# Altium integrated library Oscillators - Crystals.IntLib: 746 symbols (part 11 of 17)
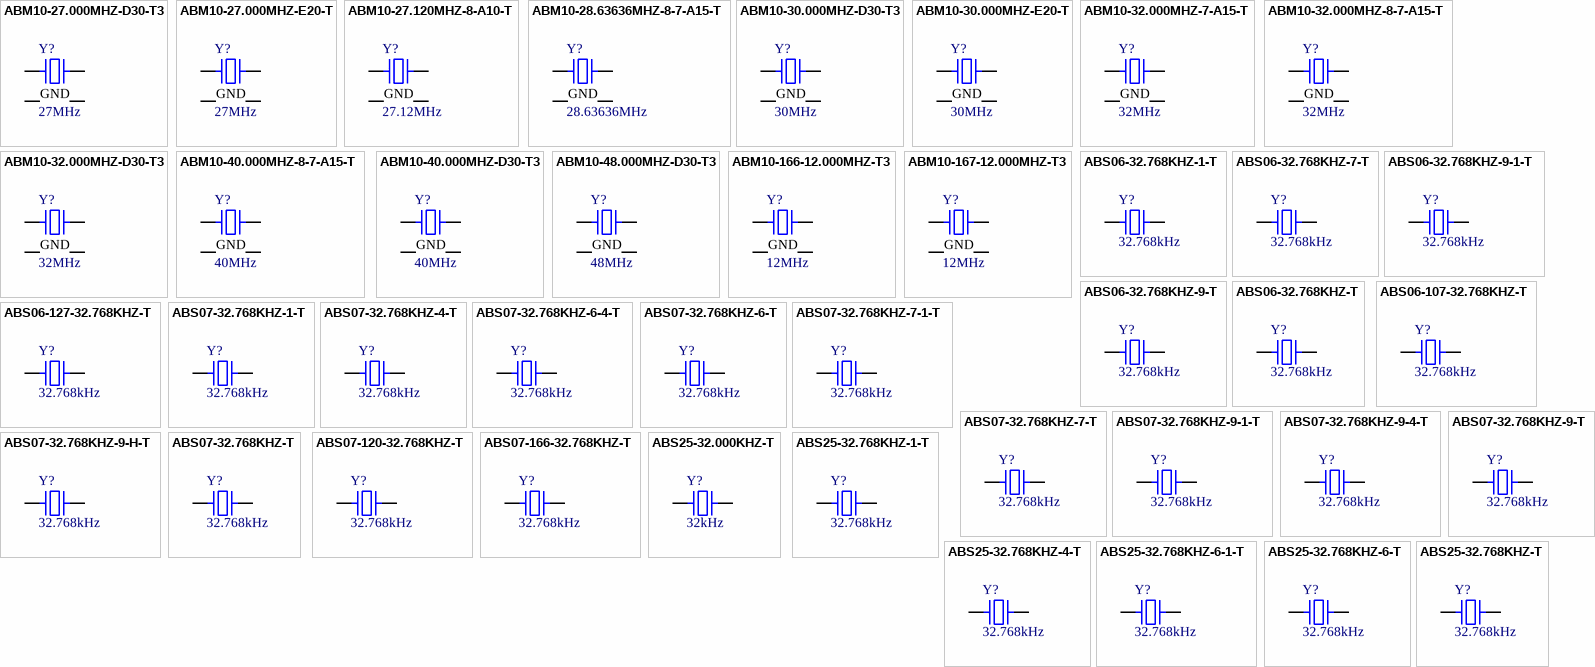
[diagram p28: symbols ABM10-27.000MHZ-D30-T3 to ABS25-32.768KHZ-T]

## ABS06-32.768KHZ-T
designator Y?, comment 32.768kHz
CRYSTAL 32.7680KHZ 12.5PF SMD; Part Number: ABS06-32.768KHZ-T; Manufacturer: Abracon LLC; ESR (Equivalent Series Resistance): 90 kOhms; Frequency Tolerance: ±20ppm; Operating Mode: Fundamental; ComponentLink1Description: Datasheet; ComponentLink1URL: https://abracon.com/Resonators/ABS06.pdf; ComponentLink2Description: DigiKey Link; ComponentLink2URL: http://digikey.com/product-detail/en/abracon-llc/ABS06-32.768KHZ-T/535-10104-1-ND/2089921; Frequency: 32.768kHz; Height - Seated (Max): 0.024" (0.60mm); LastUpdated: 9/2/2020 1:21:46 AM; Lifecycle Status: Active; Load Capacitance: 12.5pF; Minimum Order: 1; Mounting Type: Surface Mount; Operating Temperature: -40°C ~ 85°C; Package / Case: 2-SMD, No Lead; Packaging: TapeAndReel; PartId: 375; Part Status: Active; Price: 0.76; Series: ABS06; Size / Dimension: 0.079" L x 0.047" W (2.00mm x 1.20mm); Supplier 1: DigiKey; Supplier Part Number 1: 535-10104-1-ND; Type: kHz Crystal (Tuning Fork); Value: 32.768kHz
footprint ABRACON ABS06
pins: 1, 2

## ABS06-107-32.768KHZ-T
designator Y?, comment 32.768kHz
CRYSTAL 32.7680KHZ 4PF SMD; Part Number: ABS06-107-32.768KHZ-T; Manufacturer: Abracon LLC; ESR (Equivalent Series Resistance): 60 kOhms; Frequency Tolerance: ±20ppm; Operating Mode: Fundamental; ComponentLink1Description: Datasheet; ComponentLink1URL: https://abracon.com/Resonators/ABS06-107-32.768kHz-T.pdf; ComponentLink2Description: DigiKey Link; ComponentLink2URL: http://digikey.com/product-detail/en/abracon-llc/ABS06-107-32.768KHZ-T/535-12373-1-ND/4291563; Frequency: 32.768kHz; Height - Seated (Max): 0.024" (0.60mm); LastUpdated: 9/2/2020 1:21:46 AM; Lifecycle Status: Active; Load Capacitance: 4pF; Minimum Order: 1; Mounting Type: Surface Mount; Operating Temperature: -40°C ~ 85°C; Package / Case: 2-SMD, No Lead; Packaging: TapeAndReel; PartId: 373; Part Status: Active; Price: 0.65; Series: ABS06; Size / Dimension: 0.079" L x 0.047" W (2.00mm x 1.20mm); Supplier 1: DigiKey; Supplier Part Number 1: 535-12373-1-ND; Type: kHz Crystal (Tuning Fork); Value: 32.768kHz
footprint ABRACON ABS06
pins: 1, 2

## ABS06-127-32.768KHZ-T
designator Y?, comment 32.768kHz
IOT 32.786KHZ XTAL; Part Number: ABS06-127-32.768KHZ-T; Manufacturer: Abracon LLC; ESR (Equivalent Series Resistance): 90 kOhms; Frequency Tolerance: ±20ppm; Load Capacitance: 12.5pF; Operating Mode: Fundamental; ComponentLink1Description: Datasheet; ComponentLink1URL: https://abracon.com/datasheets/ABS06-127-32.768kHz-T.pdf; ComponentLink2Description: DigiKey Link; ComponentLink2URL: http://digikey.com/product-detail/en/abracon-llc/ABS06-127-32.768KHZ-T/535-14513-1-ND/8827204; Frequency: 32.768kHz; Height - Seated (Max): 0.024" (0.60mm); LastUpdated: 9/2/2020 1:21:46 AM; Lifecycle Status: Active; Minimum Order: 1; Mounting Type: Surface Mount; Operating Temperature: -40°C ~ 85°C; Package / Case: 2-SMD, No Lead; Packaging: TapeAndReel; PartId: 374; Part Status: Active; Price: 0.36; Series: ABS06; Size / Dimension: 0.079" L x 0.047" W (2.00mm x 1.20mm); Supplier 1: DigiKey; Supplier Part Number 1: 535-14513-1-ND; Type: kHz Crystal (Tuning Fork); Value: 32.768kHz
footprint ABRACON ABS06
pins: 1, 2

## ABS07-32.768KHZ-1-T
designator Y?, comment 32.768kHz
CRYSTAL 32.7680KHZ 12.5PF SMD; Part Number: ABS07-32.768KHZ-1-T; Manufacturer: Abracon LLC; ESR (Equivalent Series Resistance): 70 kOhms; Frequency Tolerance: ±10ppm; Operating Mode: Fundamental; ComponentLink1Description: Datasheet; ComponentLink1URL: https://abracon.com/Resonators/ABS07.pdf; ComponentLink2Description: DigiKey Link; ComponentLink2URL: http://digikey.com/product-detail/en/abracon-llc/ABS07-32.768KHZ-1-T/535-9808-1-ND/2001431; Frequency: 32.768kHz; Height - Seated (Max): 0.035" (0.90mm); LastUpdated: 9/2/2020 1:21:47 AM; Lifecycle Status: Active; Load Capacitance: 12.5pF; Minimum Order: 1; Mounting Type: Surface Mount; Operating Temperature: -40°C ~ 85°C; Package / Case: 2-SMD, No Lead; Packaging: TapeAndReel; PartId: 389; Part Status: Active; Price: 0.68; Series: ABS07; Size / Dimension: 0.126" L x 0.059" W (3.20mm x 1.50mm); Supplier 1: DigiKey; Supplier Part Number 1: 535-9808-1-ND; Type: kHz Crystal (Tuning Fork); Value: 32.768kHz
footprint ABRACON ABS07
pins: 1, 2

## ABS07-32.768KHZ-4-T
designator Y?, comment 32.768kHz
CRYSTAL 32.7680KHZ 12.5PF SMD; Part Number: ABS07-32.768KHZ-4-T; Manufacturer: Abracon LLC; ESR (Equivalent Series Resistance): 70 kOhms; Frequency Tolerance: ±30ppm; Load Capacitance: 4pF; Operating Mode: Fundamental; ComponentLink1Description: Datasheet; ComponentLink1URL: https://abracon.com/Resonators/ABS07.pdf; ComponentLink2Description: DigiKey Link; ComponentLink2URL: http://digikey.com/product-detail/en/abracon-llc/ABS07-32.768KHZ-4-T/535-13424-1-ND/5980101; Frequency: 32.768kHz; Height - Seated (Max): 0.035" (0.90mm); LastUpdated: 9/2/2020 1:21:47 AM; Lifecycle Status: Active; Minimum Order: 1; Mounting Type: Surface Mount; Operating Temperature: -40°C ~ 85°C; Package / Case: 2-SMD, No Lead; Packaging: TapeAndReel; PartId: 381; Part Status: Active; Price: 0.55; Series: ABS07; Size / Dimension: 0.126" L x 0.059" W (3.20mm x 1.50mm); Supplier 1: DigiKey; Supplier Part Number 1: 535-13424-1-ND; Type: kHz Crystal (Tuning Fork); Value: 32.768kHz
footprint ABRACON ABS07
pins: 1, 2

## ABS07-32.768KHZ-6-4-T
designator Y?, comment 32.768kHz
CRYSTAL 32.7680KHZ 6PF SMD; Part Number: ABS07-32.768KHZ-6-4-T; Manufacturer: Abracon LLC; ESR (Equivalent Series Resistance): 70 kOhms; Frequency Tolerance: ±30ppm; Operating Mode: Fundamental; ComponentLink1Description: Datasheet; ComponentLink1URL: https://abracon.com/Resonators/ABS07.pdf; ComponentLink2Description: DigiKey Link; ComponentLink2URL: http://digikey.com/product-detail/en/abracon-llc/ABS07-32.768KHZ-6-4-T/535-15021-1-ND/9998098; Frequency: 32.768kHz; Height - Seated (Max): 0.035" (0.90mm); LastUpdated: 9/2/2020 1:21:47 AM; Lifecycle Status: Active; Load Capacitance: 6pF; Minimum Order: 1; Mounting Type: Surface Mount; Operating Temperature: -40°C ~ 85°C; Package / Case: 2-SMD, No Lead; Packaging: TapeAndReel; PartId: 387; Part Status: Active; Price: 0.20; Series: ABS07; Size / Dimension: 0.126" L x 0.059" W (3.20mm x 1.50mm); Supplier 1: DigiKey; Supplier Part Number 1: 535-15021-1-ND; Type: kHz Crystal (Tuning Fork); Value: 32.768kHz
footprint ABRACON ABS07
pins: 1, 2

## ABS07-32.768KHZ-6-T
designator Y?, comment 32.768kHz
CRYSTAL 32.7680KHZ 6PF SMD; Part Number: ABS07-32.768KHZ-6-T; Manufacturer: Abracon LLC; ESR (Equivalent Series Resistance): 70 kOhms; Frequency Tolerance: ±20ppm; Operating Mode: Fundamental; ComponentLink1Description: Datasheet; ComponentLink1URL: https://abracon.com/Resonators/ABS07.pdf; ComponentLink2Description: DigiKey Link; ComponentLink2URL: http://digikey.com/product-detail/en/abracon-llc/ABS07-32.768KHZ-6-T/535-11898-1-ND/3508071; Frequency: 32.768kHz; Height - Seated (Max): 0.035" (0.90mm); LastUpdated: 9/2/2020 1:21:47 AM; Lifecycle Status: Active; Load Capacitance: 6pF; Minimum Order: 1; Mounting Type: Surface Mount; Operating Temperature: -40°C ~ 85°C; Package / Case: 2-SMD, No Lead; Packaging: TapeAndReel; PartId: 379; Part Status: Active; Price: 0.55; Series: ABS07; Size / Dimension: 0.126" L x 0.059" W (3.20mm x 1.50mm); Supplier 1: DigiKey; Supplier Part Number 1: 535-11898-1-ND; Type: kHz Crystal (Tuning Fork); Value: 32.768kHz
footprint ABRACON ABS07
pins: 1, 2

## ABS07-32.768KHZ-7-1-T
designator Y?, comment 32.768kHz
CRYSTAL 32.768KHZ 7PF SMD; Part Number: ABS07-32.768KHZ-7-1-T; Manufacturer: Abracon LLC; ESR (Equivalent Series Resistance): 70 kOhms; Frequency Tolerance: ±10ppm; Operating Mode: Fundamental; ComponentLink1Description: Datasheet; ComponentLink1URL: https://abracon.com/Resonators/ABS07.pdf; ComponentLink2Description: DigiKey Link; ComponentLink2URL: http://digikey.com/product-detail/en/abracon-llc/ABS07-32.768KHZ-7-1-T/535-13478-1-ND/5980154; Frequency: 32.768kHz; Height - Seated (Max): 0.035" (0.90mm); LastUpdated: 9/2/2020 1:21:47 AM; Lifecycle Status: Active; Load Capacitance: 7pF; Minimum Order: 0; Mounting Type: Surface Mount; Operating Temperature: -40°C ~ 85°C; Package / Case: 2-SMD, No Lead; Packaging: TapeAndReel; PartId: 383; Part Status: Active; Price: 0.55; Series: ABS07; Size / Dimension: 0.126" L x 0.059" W (3.20mm x 1.50mm); Supplier 1: DigiKey; Supplier Part Number 1: 535-13478-1-ND; Type: kHz Crystal (Tuning Fork); Value: 32.768kHz
footprint ABRACON ABS07
pins: 1, 2

## ABS07-32.768KHZ-7-T
designator Y?, comment 32.768kHz
CRYSTAL 32.7680KHZ 7PF SMD; Part Number: ABS07-32.768KHZ-7-T; Manufacturer: Abracon LLC; ESR (Equivalent Series Resistance): 70 kOhms; Frequency Tolerance: ±20ppm; Operating Mode: Fundamental; ComponentLink1Description: Datasheet; ComponentLink1URL: https://abracon.com/Resonators/ABS07.pdf; ComponentLink2Description: DigiKey Link; ComponentLink2URL: http://digikey.com/product-detail/en/abracon-llc/ABS07-32.768KHZ-7-T/535-9543-1-ND/1237010; Frequency: 32.768kHz; Height - Seated (Max): 0.035" (0.90mm); LastUpdated: 9/2/2020 1:21:47 AM; Lifecycle Status: Active; Load Capacitance: 7pF; Minimum Order: 1; Mounting Type: Surface Mount; Operating Temperature: -40°C ~ 85°C; Package / Case: 2-SMD, No Lead; Packaging: TapeAndReel; PartId: 377; Part Status: Active; Price: 0.55; Series: ABS07; Size / Dimension: 0.126" L x 0.059" W (3.20mm x 1.50mm); Supplier 1: DigiKey; Supplier Part Number 1: 535-9543-1-ND; Type: kHz Crystal (Tuning Fork); Value: 32.768kHz
footprint ABRACON ABS07
pins: 1, 2

## ABS07-32.768KHZ-9-1-T
designator Y?, comment 32.768kHz
CRYSTAL 32.768KHZ 9PF SMD; Part Number: ABS07-32.768KHZ-9-1-T; Manufacturer: Abracon LLC; ESR (Equivalent Series Resistance): 70 kOhms; Frequency Tolerance: ±10ppm; Operating Mode: Fundamental; ComponentLink1Description: Datasheet; ComponentLink1URL: https://abracon.com/Resonators/ABS07.pdf; ComponentLink2Description: DigiKey Link; ComponentLink2URL: http://digikey.com/product-detail/en/abracon-llc/ABS07-32.768KHZ-9-1-T/535-13479-1-ND/5980155; Frequency: 32.768kHz; Height - Seated (Max): 0.035" (0.90mm); LastUpdated: 9/2/2020 1:21:47 AM; Lifecycle Status: Active; Load Capacitance: 9pF; Minimum Order: 0; Mounting Type: Surface Mount; Operating Temperature: -40°C ~ 85°C; Package / Case: 2-SMD, No Lead; Packaging: TapeAndReel; PartId: 380; Part Status: Active; Price: 0.55; Series: ABS07; Size / Dimension: 0.126" L x 0.059" W (3.20mm x 1.50mm); Supplier 1: DigiKey; Supplier Part Number 1: 535-13479-1-ND; Type: kHz Crystal (Tuning Fork); Value: 32.768kHz
footprint ABRACON ABS07
pins: 1, 2

## ABS07-32.768KHZ-9-4-T
designator Y?, comment 32.768kHz
CRYSTAL 32.7680KHZ 9PF SMD; Part Number: ABS07-32.768KHZ-9-4-T; Manufacturer: Abracon LLC; ESR (Equivalent Series Resistance): 70 kOhms; Frequency Tolerance: ±30ppm; Operating Mode: Fundamental; ComponentLink1Description: Datasheet; ComponentLink1URL: https://abracon.com/Resonators/ABS07.pdf; ComponentLink2Description: DigiKey Link; ComponentLink2URL: http://digikey.com/product-detail/en/abracon-llc/ABS07-32.768KHZ-9-4-T/535-15022-1-ND/9998099; Frequency: 32.768kHz; Height - Seated (Max): 0.035" (0.90mm); LastUpdated: 9/2/2020 1:21:47 AM; Lifecycle Status: Active; Load Capacitance: 9pF; Minimum Order: 1; Mounting Type: Surface Mount; Operating Temperature: -40°C ~ 85°C; Package / Case: 2-SMD, No Lead; Packaging: TapeAndReel; PartId: 386; Part Status: Active; Price: 0.20; Series: ABS07; Size / Dimension: 0.126" L x 0.059" W (3.20mm x 1.50mm); Supplier 1: DigiKey; Supplier Part Number 1: 535-15022-1-ND; Type: kHz Crystal (Tuning Fork); Value: 32.768kHz
footprint ABRACON ABS07
pins: 1, 2

## ABS07-32.768KHZ-9-H-T
designator Y?, comment 32.768kHz
CRYSTAL 32.7680KHZ 9PF SMD; Part Number: ABS07-32.768KHZ-9-H-T; Manufacturer: Abracon LLC; ESR (Equivalent Series Resistance): 70 kOhms; Frequency Tolerance: ±20ppm; Operating Mode: Fundamental; ComponentLink1Description: Datasheet; ComponentLink1URL: https://abracon.com/Resonators/ABS07.pdf; ComponentLink2Description: DigiKey Link; ComponentLink2URL: http://digikey.com/product-detail/en/abracon-llc/ABS07-32.768KHZ-9-H-T/535-15023-1-ND/9998100; Frequency: 32.768kHz; Height - Seated (Max): 0.035" (0.90mm); LastUpdated: 9/2/2020 1:21:47 AM; Lifecycle Status: Active; Load Capacitance: 9pF; Minimum Order: 1; Mounting Type: Surface Mount; Operating Temperature: -40°C ~ 85°C; Package / Case: 2-SMD, No Lead; Packaging: TapeAndReel; PartId: 388; Part Status: Active; Price: 0.31; Series: ABS07; Size / Dimension: 0.126" L x 0.059" W (3.20mm x 1.50mm); Supplier 1: DigiKey; Supplier Part Number 1: 535-15023-1-ND; Type: kHz Crystal (Tuning Fork); Value: 32.768kHz
footprint ABRACON ABS07
pins: 1, 2

## ABS07-32.768KHZ-9-T
designator Y?, comment 32.768kHz
CRYSTAL 32.7680KHZ 9PF SMD; Part Number: ABS07-32.768KHZ-9-T; Manufacturer: Abracon LLC; ESR (Equivalent Series Resistance): 70 kOhms; Frequency Tolerance: ±20ppm; Operating Mode: Fundamental; ComponentLink1Description: Datasheet; ComponentLink1URL: https://abracon.com/Resonators/ABS07.pdf; ComponentLink2Description: DigiKey Link; ComponentLink2URL: http://digikey.com/product-detail/en/abracon-llc/ABS07-32.768KHZ-9-T/535-9544-1-ND/1237011; Frequency: 32.768kHz; Height - Seated (Max): 0.035" (0.90mm); LastUpdated: 9/2/2020 1:21:47 AM; Lifecycle Status: Active; Load Capacitance: 9pF; Minimum Order: 1; Mounting Type: Surface Mount; Operating Temperature: -40°C ~ 85°C; Package / Case: 2-SMD, No Lead; Packaging: TapeAndReel; PartId: 378; Part Status: Active; Price: 0.55; Series: ABS07; Size / Dimension: 0.126" L x 0.059" W (3.20mm x 1.50mm); Supplier 1: DigiKey; Supplier Part Number 1: 535-9544-1-ND; Type: kHz Crystal (Tuning Fork); Value: 32.768kHz
footprint ABRACON ABS07
pins: 1, 2

## ABS07-32.768KHZ-T
designator Y?, comment 32.768kHz
CRYSTAL 32.7680KHZ 12.5PF SMD; Part Number: ABS07-32.768KHZ-T; Manufacturer: Abracon LLC; ESR (Equivalent Series Resistance): 70 kOhms; Frequency Tolerance: ±20ppm; Operating Mode: Fundamental; ComponentLink1Description: Datasheet; ComponentLink1URL: https://abracon.com/Resonators/ABS07.pdf; ComponentLink2Description: DigiKey Link; ComponentLink2URL: http://digikey.com/product-detail/en/abracon-llc/ABS07-32.768KHZ-T/535-9542-1-ND/1237009; Frequency: 32.768kHz; Height - Seated (Max): 0.035" (0.90mm); LastUpdated: 9/2/2020 1:21:47 AM; Lifecycle Status: Active; Load Capacitance: 12.5pF; Minimum Order: 1; Mounting Type: Surface Mount; Operating Temperature: -40°C ~ 85°C; Package / Case: 2-SMD, No Lead; Packaging: TapeAndReel; PartId: 382; Part Status: Active; Price: 0.32; Series: ABS07; Size / Dimension: 0.126" L x 0.059" W (3.20mm x 1.50mm); Supplier 1: DigiKey; Supplier Part Number 1: 535-9542-1-ND; Type: kHz Crystal (Tuning Fork); Value: 32.768kHz
footprint ABRACON ABS07
pins: 1, 2

## ABS07-120-32.768KHZ-T
designator Y?, comment 32.768kHz
CRYSTAL 32.7680KHZ 6PF SMD; Part Number: ABS07-120-32.768KHZ-T; Manufacturer: Abracon LLC; ESR (Equivalent Series Resistance): 55 kOhms; Frequency Tolerance: ±20ppm; Operating Mode: Fundamental; ComponentLink1Description: Datasheet; ComponentLink1URL: https://abracon.com/Resonators/ABS07-120-32.768kHz-T.pdf; ComponentLink2Description: DigiKey Link; ComponentLink2URL: http://digikey.com/product-detail/en/abracon-llc/ABS07-120-32.768KHZ-T/535-11937-1-ND/3724046; Frequency: 32.768kHz; Height - Seated (Max): 0.035" (0.90mm); LastUpdated: 9/2/2020 1:21:47 AM; Lifecycle Status: Active; Load Capacitance: 6pF; Minimum Order: 1; Mounting Type: Surface Mount; Operating Temperature: -40°C ~ 85°C; Package / Case: 2-SMD, No Lead; Packaging: TapeAndReel; PartId: 385; Part Status: Active; Price: 0.39; Series: ABS07; Size / Dimension: 0.126" L x 0.059" W (3.20mm x 1.50mm); Supplier 1: DigiKey; Supplier Part Number 1: 535-11937-1-ND; Type: kHz Crystal (Tuning Fork); Value: 32.768kHz
footprint ABRACON ABS07
pins: 1, 2

## ABS07-166-32.768KHZ-T
designator Y?, comment 32.768kHz
IOT 32.786KHZ XTAL; Part Number: ABS07-166-32.768KHZ-T; Manufacturer: Abracon LLC; ESR (Equivalent Series Resistance): 70 kOhms; Frequency Tolerance: ±10ppm; Load Capacitance: 7pF; Operating Mode: Fundamental; ComponentLink1Description: Datasheet; ComponentLink1URL: https://abracon.com/datasheets/ABS07-166-32.768kHz-T.pdf; ComponentLink2Description: DigiKey Link; ComponentLink2URL: http://digikey.com/product-detail/en/abracon-llc/ABS07-166-32.768KHZ-T/535-14514-1-ND/8827205; Frequency: 32.768kHz; Height - Seated (Max): 0.035" (0.90mm); LastUpdated: 9/2/2020 1:21:47 AM; Lifecycle Status: Active; Minimum Order: 1; Mounting Type: Surface Mount; Operating Temperature: -40°C ~ 85°C; Package / Case: 2-SMD, No Lead; Packaging: TapeAndReel; PartId: 384; Part Status: Active; Price: 0.35; Series: ABS07; Size / Dimension: 0.126" L x 0.059" W (3.20mm x 1.50mm); Supplier 1: DigiKey; Supplier Part Number 1: 535-14514-1-ND; Type: kHz Crystal (Tuning Fork); Value: 32.768kHz
footprint ABRACON ABS07
pins: 1, 2

## ABS25-32.000KHZ-T
designator Y?, comment 32kHz
CRYSTAL 32.0000KHZ 12.5PF SMD; Part Number: ABS25-32.000KHZ-T; Manufacturer: Abracon LLC; ESR (Equivalent Series Resistance): 50 kOhms; Frequency Tolerance: ±30ppm; Operating Mode: Fundamental; ComponentLink1Description: Datasheet; ComponentLink1URL: https://abracon.com/Resonators/abs25.pdf; ComponentLink2Description: DigiKey Link; ComponentLink2URL: http://digikey.com/product-detail/en/abracon-llc/ABS25-32.000KHZ-T/535-10242-1-ND/2218055; Frequency: 32kHz; Height - Seated (Max): 0.098" (2.50mm); LastUpdated: 9/2/2020 1:21:47 AM; Lifecycle Status: Active; Load Capacitance: 12.5pF; Minimum Order: 1; Mounting Type: Surface Mount; Operating Temperature: -40°C ~ 85°C; Package / Case: 4-SOJ, 5.50mm pitch; Packaging: TapeAndReel; PartId: 398; Part Status: Active; Price: 0.71; Series: ABS25; Size / Dimension: 0.315" L x 0.150" W (8.00mm x 3.80mm); Supplier 1: DigiKey; Supplier Part Number 1: 535-10242-1-ND; Type: kHz Crystal (Tuning Fork); Value: 32kHz
footprint ABRACON ABS25
pins: 1, 4

## ABS25-32.768KHZ-1-T
designator Y?, comment 32.768kHz
CRYSTAL 32.7680KHZ 12.5PF SMD; Part Number: ABS25-32.768KHZ-1-T; Manufacturer: Abracon LLC; ESR (Equivalent Series Resistance): 50 kOhms; Frequency Tolerance: ±10ppm; Operating Mode: Fundamental; ComponentLink1Description: Datasheet; ComponentLink1URL: https://abracon.com/Resonators/abs25.pdf; ComponentLink2Description: DigiKey Link; ComponentLink2URL: http://digikey.com/product-detail/en/abracon-llc/ABS25-32.768KHZ-1-T/535-9809-1-ND/2001432; Frequency: 32.768kHz; Height - Seated (Max): 0.098" (2.50mm); LastUpdated: 9/2/2020 1:21:47 AM; Lifecycle Status: Active; Load Capacitance: 12.5pF; Minimum Order: 1; Mounting Type: Surface Mount; Operating Temperature: -40°C ~ 85°C; Package / Case: 4-SOJ, 5.50mm pitch; Packaging: TapeAndReel; PartId: 394; Part Status: Active; Price: 0.39; Series: ABS25; Size / Dimension: 0.315" L x 0.150" W (8.00mm x 3.80mm); Supplier 1: DigiKey; Supplier Part Number 1: 535-9809-1-ND; Type: kHz Crystal (Tuning Fork); Value: 32.768kHz
footprint ABRACON ABS25
pins: 1, 4

## ABS25-32.768KHZ-4-T
designator Y?, comment 32.768kHz
CRYSTAL 32.7680KHZ 12.5PF SMD; Part Number: ABS25-32.768KHZ-4-T; Manufacturer: Abracon LLC; ESR (Equivalent Series Resistance): 50 kOhms; Frequency Tolerance: ±30ppm; Operating Mode: Fundamental; ComponentLink1Description: Datasheet; ComponentLink1URL: https://abracon.com/Resonators/abs25.pdf; ComponentLink2Description: DigiKey Link; ComponentLink2URL: http://digikey.com/product-detail/en/abracon-llc/ABS25-32.768KHZ-4-T/535-13425-1-ND/5980102; Frequency: 32.768kHz; Height - Seated (Max): 0.098" (2.50mm); LastUpdated: 9/2/2020 1:21:47 AM; Lifecycle Status: Active; Load Capacitance: 12.5pF; Minimum Order: 1; Mounting Type: Surface Mount; Operating Temperature: -40°C ~ 85°C; Package / Case: 4-SOJ, 5.50mm pitch; Packaging: TapeAndReel; PartId: 392; Part Status: Active; Price: 0.29; Series: ABS25; Size / Dimension: 0.315" L x 0.150" W (8.00mm x 3.80mm); Supplier 1: DigiKey; Supplier Part Number 1: 535-13425-1-ND; Type: kHz Crystal (Tuning Fork); Value: 32.768kHz
footprint ABRACON ABS25
pins: 1, 4

## ABS25-32.768KHZ-6-1-T
designator Y?, comment 32.768kHz
CRYSTAL 32.7680KHZ 6PF SMD; Part Number: ABS25-32.768KHZ-6-1-T; Manufacturer: Abracon LLC; ESR (Equivalent Series Resistance): 50 kOhms; Frequency Tolerance: ±10ppm; Operating Mode: Fundamental; ComponentLink1Description: Datasheet; ComponentLink1URL: https://abracon.com/Resonators/abs25.pdf; ComponentLink2Description: DigiKey Link; ComponentLink2URL: http://digikey.com/product-detail/en/abracon-llc/ABS25-32.768KHZ-6-1-T/535-10241-1-ND/2218054; Frequency: 32.768kHz; Height - Seated (Max): 0.098" (2.50mm); LastUpdated: 9/2/2020 1:21:47 AM; Lifecycle Status: Active; Load Capacitance: 6pF; Minimum Order: 1; Mounting Type: Surface Mount; Operating Temperature: -40°C ~ 85°C; Package / Case: 4-SOJ, 5.50mm pitch; Packaging: TapeAndReel; PartId: 393; Part Status: Active; Price: 0.39; Series: ABS25; Size / Dimension: 0.315" L x 0.150" W (8.00mm x 3.80mm); Supplier 1: DigiKey; Supplier Part Number 1: 535-10241-1-ND; Type: kHz Crystal (Tuning Fork); Value: 32.768kHz
footprint ABRACON ABS25
pins: 1, 4

## ABS25-32.768KHZ-6-T
designator Y?, comment 32.768kHz
CRYSTAL 32.7680KHZ 6PF SMD; Part Number: ABS25-32.768KHZ-6-T; Manufacturer: Abracon LLC; ESR (Equivalent Series Resistance): 50 kOhms; Frequency Tolerance: ±20ppm; Operating Mode: Fundamental; ComponentLink1Description: Datasheet; ComponentLink1URL: https://abracon.com/Resonators/abs25.pdf; ComponentLink2Description: DigiKey Link; ComponentLink2URL: http://digikey.com/product-detail/en/abracon-llc/ABS25-32.768KHZ-6-T/535-10240-1-ND/2218053; Frequency: 32.768kHz; Height - Seated (Max): 0.098" (2.50mm); LastUpdated: 9/2/2020 1:21:47 AM; Lifecycle Status: Active; Load Capacitance: 6pF; Minimum Order: 1; Mounting Type: Surface Mount; Operating Temperature: -40°C ~ 85°C; Package / Case: 4-SOJ, 5.50mm pitch; Packaging: TapeAndReel; PartId: 395; Part Status: Active; Price: 0.42; Series: ABS25; Size / Dimension: 0.315" L x 0.150" W (8.00mm x 3.80mm); Supplier 1: DigiKey; Supplier Part Number 1: 535-10240-1-ND; Type: kHz Crystal (Tuning Fork); Value: 32.768kHz
footprint ABRACON ABS25
pins: 1, 4

## ABS25-32.768KHZ-T
designator Y?, comment 32.768kHz
CRYSTAL 32.7680KHZ 12.5PF SMD; Part Number: ABS25-32.768KHZ-T; Manufacturer: Abracon LLC; ESR (Equivalent Series Resistance): 50 kOhms; Frequency Tolerance: ±20ppm; Operating Mode: Fundamental; ComponentLink1Description: Datasheet; ComponentLink1URL: https://abracon.com/Resonators/abs25.pdf; ComponentLink2Description: DigiKey Link; ComponentLink2URL: http://digikey.com/product-detail/en/abracon-llc/ABS25-32.768KHZ-T/535-9166-1-ND/675683; Frequency: 32.768kHz; Height - Seated (Max): 0.098" (2.50mm); LastUpdated: 9/2/2020 1:21:47 AM; Lifecycle Status: Active; Load Capacitance: 12.5pF; Minimum Order: 1; Mounting Type: Surface Mount; Operating Temperature: -40°C ~ 85°C; Package / Case: 4-SOJ, 5.50mm pitch; Packaging: TapeAndReel; PartId: 391; Part Status: Active; Price: 0.29; Series: ABS25; Size / Dimension: 0.315" L x 0.150" W (8.00mm x 3.80mm); Supplier 1: DigiKey; Supplier Part Number 1: 535-9166-1-ND; Type: kHz Crystal (Tuning Fork); Value: 32.768kHz
footprint ABRACON ABS25
pins: 1, 4

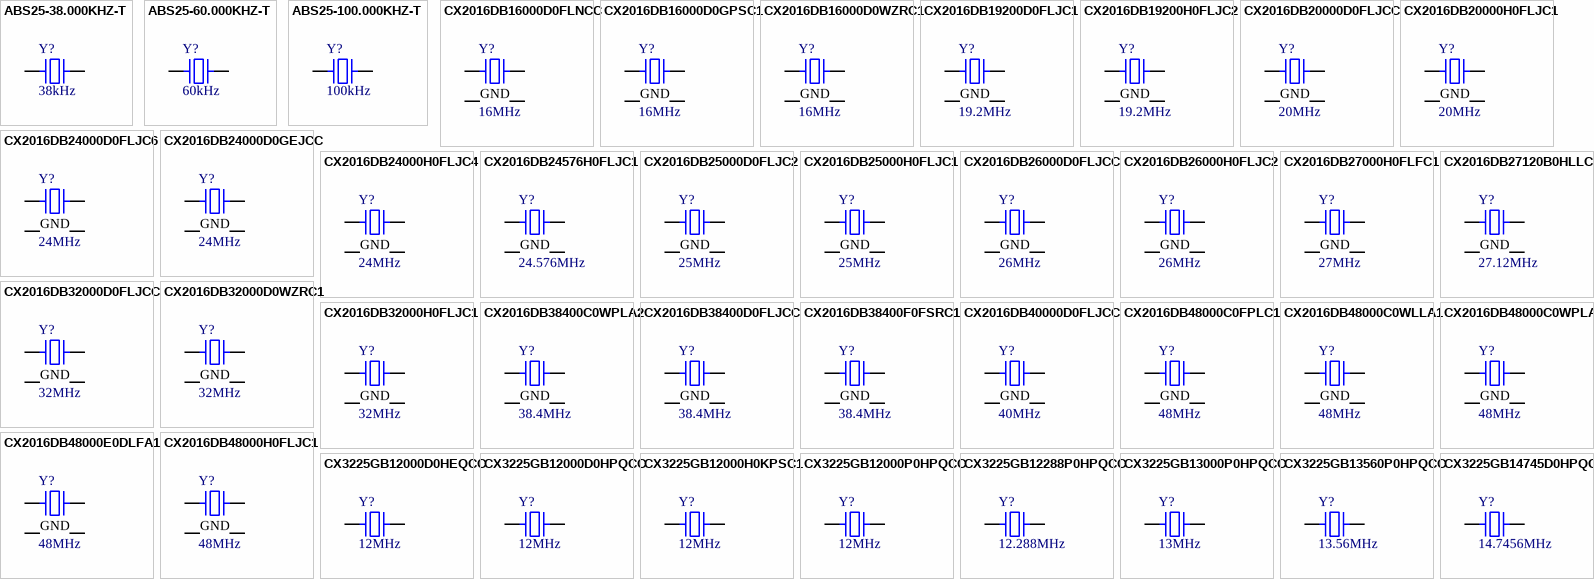
[diagram p12: symbols ABS25-38.000KHZ-T to CX3225GB14745D0HPQCC]

## ABS25-38.000KHZ-T
designator Y?, comment 38kHz
CRYSTAL 38.0000KHZ 12.5PF SMD; Part Number: ABS25-38.000KHZ-T; Manufacturer: Abracon LLC; ESR (Equivalent Series Resistance): 50 kOhms; Frequency Tolerance: ±30ppm; Operating Mode: Fundamental; ComponentLink1Description: Datasheet; ComponentLink1URL: https://abracon.com/Resonators/abs25.pdf; ComponentLink2Description: DigiKey Link; ComponentLink2URL: http://digikey.com/product-detail/en/abracon-llc/ABS25-38.000KHZ-T/535-10243-1-ND/2218056; Frequency: 38kHz; Height - Seated (Max): 0.098" (2.50mm); LastUpdated: 9/2/2020 1:21:47 AM; Lifecycle Status: Active; Load Capacitance: 12.5pF; Minimum Order: 0; Mounting Type: Surface Mount; Operating Temperature: -40°C ~ 85°C; Package / Case: 4-SOJ, 5.50mm pitch; Packaging: TapeAndReel; PartId: 397; Part Status: Active; Price: 0.65; Series: ABS25; Size / Dimension: 0.315" L x 0.150" W (8.00mm x 3.80mm); Supplier 1: DigiKey; Supplier Part Number 1: 535-10243-1-ND; Type: kHz Crystal (Tuning Fork); Value: 38kHz
footprint ABRACON ABS25
pins: 1, 4

## ABS25-60.000KHZ-T
designator Y?, comment 60kHz
CRYSTAL 60.0000KHZ 12.5PF SMD; Part Number: ABS25-60.000KHZ-T; Manufacturer: Abracon LLC; ESR (Equivalent Series Resistance): 50 kOhms; Frequency Tolerance: ±30ppm; Operating Mode: Fundamental; ComponentLink1Description: Datasheet; ComponentLink1URL: https://abracon.com/Resonators/abs25.pdf; ComponentLink2Description: DigiKey Link; ComponentLink2URL: http://digikey.com/product-detail/en/abracon-llc/ABS25-60.000KHZ-T/535-10244-1-ND/2218057; Frequency: 60kHz; Height - Seated (Max): 0.098" (2.50mm); LastUpdated: 9/2/2020 1:21:47 AM; Lifecycle Status: Active; Load Capacitance: 12.5pF; Minimum Order: 1; Mounting Type: Surface Mount; Operating Temperature: -40°C ~ 85°C; Package / Case: 4-SOJ, 5.50mm pitch; Packaging: TapeAndReel; PartId: 390; Part Status: Active; Price: 0.85; Series: ABS25; Size / Dimension: 0.315" L x 0.150" W (8.00mm x 3.80mm); Supplier 1: DigiKey; Supplier Part Number 1: 535-10244-1-ND; Type: kHz Crystal (Tuning Fork); Value: 60kHz
footprint ABRACON ABS25
pins: 1, 4

## ABS25-100.000KHZ-T
designator Y?, comment 100kHz
CRYSTAL 100.0000KHZ 12.5PF SMD; Part Number: ABS25-100.000KHZ-T; Manufacturer: Abracon LLC; ESR (Equivalent Series Resistance): 50 kOhms; Frequency Tolerance: ±30ppm; Operating Mode: Fundamental; ComponentLink1Description: Datasheet; ComponentLink1URL: https://abracon.com/Resonators/abs25.pdf; ComponentLink2Description: DigiKey Link; ComponentLink2URL: http://digikey.com/product-detail/en/abracon-llc/ABS25-100.000KHZ-T/535-10245-1-ND/2218058; Frequency: 100kHz; Height - Seated (Max): 0.098" (2.50mm); LastUpdated: 9/2/2020 1:21:47 AM; Lifecycle Status: Active; Load Capacitance: 12.5pF; Minimum Order: 1; Mounting Type: Surface Mount; Operating Temperature: -40°C ~ 85°C; Package / Case: 4-SOJ, 5.50mm pitch; Packaging: TapeAndReel; PartId: 396; Part Status: Active; Price: 0.67; Series: ABS25; Size / Dimension: 0.315" L x 0.150" W (8.00mm x 3.80mm); Supplier 1: DigiKey; Supplier Part Number 1: 535-10245-1-ND; Type: kHz Crystal (Tuning Fork); Value: 100kHz
footprint ABRACON ABS25
pins: 1, 4

## CX2016DB16000D0FLNCC
designator Y?, comment 16MHz
CRYSTAL 16.0000MHZ 25PPM SMD; Part Number: CX2016DB16000D0FLNCC; Manufacturer: Kyocera International Inc. Electronic Components; ESR (Equivalent Series Resistance): 200 Ohms; Frequency Tolerance: ±10ppm; Load Capacitance: 8pF; Operating Mode: Fundamental; ComponentLink1Description: Datasheet; ComponentLink1URL: //media.digikey.com/pdf/Data%20Sheets/Kyocera%20International/CX2016DB16000D0FLNCC_Spec.pdf; ComponentLink2Description: DigiKey Link; ComponentLink2URL: http://digikey.com/product-detail/en/kyocera-international-inc-electronic-components/CX2016DB16000D0FLNCC/1253-2051-1-ND/10059056; Frequency: 16MHz; Frequency Stability: ±25ppm; Height - Seated (Max): 0.018" (0.45mm); LastUpdated: 9/2/2020 1:21:56 AM; Lifecycle Status: Active; Minimum Order: 1; Mounting Type: Surface Mount; Operating Temperature: -30°C ~ 85°C; Package / Case: 4-SMD, No Lead; Packaging: TapeAndReel; PartId: 461; Part Status: Active; Price: 0.48; Series: CX2016DB, Kyocera; Size / Dimension: 0.079" L x 0.063" W (2.00mm x 1.60mm); Supplier 1: DigiKey; Supplier Part Number 1: 1253-2051-1-ND; Type: MHz Crystal; Value: 16MHz
footprint KYOCERA CX2016DB
pins: 1, 2 GND, 3, 4 GND

## CX2016DB16000D0GPSC1
designator Y?, comment 16MHz
CRYSTAL 16.0000MHZ 8PF SMD; Part Number: CX2016DB16000D0GPSC1; Manufacturer: Kyocera International Inc. Electronic Components; ESR (Equivalent Series Resistance): 200 Ohms; Frequency Stability: ±50ppm; Frequency Tolerance: ±15ppm; Operating Mode: Fundamental; ComponentLink1Description: Datasheet; ComponentLink1URL: https://global.kyocera.com/prdct/electro/product/pdf/cx2016db_e.pdf; ComponentLink2Description: DigiKey Link; ComponentLink2URL: http://digikey.com/product-detail/en/kyocera-international-inc-electronic-components/CX2016DB16000D0GPSC1/1253-1701-1-ND/6123328; Frequency: 16MHz; Height - Seated (Max): 0.018" (0.45mm); LastUpdated: 9/2/2020 1:21:56 AM; Lifecycle Status: Active; Load Capacitance: 8pF; Minimum Order: 1; Mounting Type: Surface Mount; Operating Temperature: -40°C ~ 85°C; Package / Case: 4-SMD, No Lead; Packaging: TapeAndReel; PartId: 481; Part Status: Active; Price: 0.36; Series: CX2016DB, Kyocera; Size / Dimension: 0.079" L x 0.063" W (2.00mm x 1.60mm); Supplier 1: DigiKey; Supplier Part Number 1: 1253-1701-1-ND; Type: MHz Crystal; Value: 16MHz
footprint KYOCERA CX2016DB
pins: 1, 2 GND, 3, 4 GND

## CX2016DB16000D0WZRC1
designator Y?, comment 16MHz
CRYSTAL 16.0000MHZ 8PF SMD; Part Number: CX2016DB16000D0WZRC1; Manufacturer: Kyocera International Inc. Electronic Components; ESR (Equivalent Series Resistance): 200 Ohms; Frequency Stability: ±40ppm; Frequency Tolerance: ±25ppm; Operating Mode: Fundamental; ComponentLink1Description: Datasheet; ComponentLink1URL: https://global.kyocera.com/prdct/electro/product/pdf/cx2016db_e.pdf; ComponentLink2Description: DigiKey Link; ComponentLink2URL: http://digikey.com/product-detail/en/kyocera-international-inc-electronic-components/CX2016DB16000D0WZRC1/1253-1585-1-ND/5436847; Frequency: 16MHz; Height - Seated (Max): 0.018" (0.45mm); LastUpdated: 9/2/2020 1:21:56 AM; Lifecycle Status: Active; Load Capacitance: 8pF; Minimum Order: 1; Mounting Type: Surface Mount; Operating Temperature: -25°C ~ 75°C; Package / Case: 4-SMD, No Lead; Packaging: TapeAndReel; PartId: 477; Part Status: Active; Price: 0.36; Series: CX2016DB, Kyocera; Size / Dimension: 0.079" L x 0.063" W (2.00mm x 1.60mm); Supplier 1: DigiKey; Supplier Part Number 1: 1253-1585-1-ND; Type: MHz Crystal; Value: 16MHz
footprint KYOCERA CX2016DB
pins: 1, 2 GND, 3, 4 GND

## CX2016DB19200D0FLJC1
designator Y?, comment 19.2MHz
CRYSTAL 19.2000MHZ 8PF SMD; Part Number: CX2016DB19200D0FLJC1; Manufacturer: Kyocera International Inc. Electronic Components; ESR (Equivalent Series Resistance): 150 Ohms; Frequency Stability: ±15ppm; Frequency Tolerance: ±10ppm; Operating Mode: Fundamental; ComponentLink1Description: Datasheet; ComponentLink1URL: https://global.kyocera.com/prdct/electro/product/pdf/cx2016db_e.pdf; ComponentLink2Description: DigiKey Link; ComponentLink2URL: http://digikey.com/product-detail/en/kyocera-international-inc-electronic-components/CX2016DB19200D0FLJC1/1253-1702-1-ND/6123329; Frequency: 19.2MHz; Height - Seated (Max): 0.018" (0.45mm); LastUpdated: 9/2/2020 1:21:56 AM; Lifecycle Status: Active; Load Capacitance: 8pF; Minimum Order: 1; Mounting Type: Surface Mount; Operating Temperature: -30°C ~ 85°C; Package / Case: 4-SMD, No Lead; Packaging: TapeAndReel; PartId: 479; Part Status: Active; Price: 0.36; Series: CX2016DB, Kyocera; Size / Dimension: 0.079" L x 0.063" W (2.00mm x 1.60mm); Supplier 1: DigiKey; Supplier Part Number 1: 1253-1702-1-ND; Type: MHz Crystal; Value: 19.2MHz
footprint KYOCERA CX2016DB
pins: 1, 2 GND, 3, 4 GND

## CX2016DB19200H0FLJC2
designator Y?, comment 19.2MHz
CRYSTAL 19.2000MHZ 12PF SMD; Part Number: CX2016DB19200H0FLJC2; Manufacturer: Kyocera International Inc. Electronic Components; ESR (Equivalent Series Resistance): 150 Ohms; Frequency Stability: ±15ppm; Frequency Tolerance: ±10ppm; Operating Mode: Fundamental; ComponentLink1Description: Datasheet; ComponentLink1URL: //media.digikey.com/pdf/Data%20Sheets/AVX%20PDFs/CX2016DB_USY1M-H1-16426-00_Spec.pdf; ComponentLink2Description: DigiKey Link; ComponentLink2URL: http://digikey.com/product-detail/en/kyocera-international-inc-electronic-components/CX2016DB19200H0FLJC2/1253-1703-1-ND/6123330; Frequency: 19.2MHz; Height - Seated (Max): 0.018" (0.45mm); LastUpdated: 9/2/2020 1:21:56 AM; Lifecycle Status: Active; Load Capacitance: 12pF; Minimum Order: 1; Mounting Type: Surface Mount; Operating Temperature: -30°C ~ 85°C; Package / Case: 4-SMD, No Lead; Packaging: TapeAndReel; PartId: 467; Part Status: Active; Price: 0.36; Series: CX2016DB, Kyocera; Size / Dimension: 0.079" L x 0.063" W (2.00mm x 1.60mm); Supplier 1: DigiKey; Supplier Part Number 1: 1253-1703-1-ND; Type: MHz Crystal; Value: 19.2MHz
footprint KYOCERA CX2016DB
pins: 1, 2 GND, 3, 4 GND

## CX2016DB20000D0FLJCC
designator Y?, comment 20MHz
CRYSTAL 20.0000MHZ 8PF SMD; Part Number: CX2016DB20000D0FLJCC; Manufacturer: Kyocera International Inc. Electronic Components; ESR (Equivalent Series Resistance): 150 Ohms; Frequency Stability: ±15ppm; Frequency Tolerance: ±10ppm; Operating Mode: Fundamental; ComponentLink1Description: Datasheet; ComponentLink1URL: //media.digikey.com/pdf/Data%20Sheets/Optrex%20PDFs/CX2016DB_Series_Spec.pdf; ComponentLink2Description: DigiKey Link; ComponentLink2URL: http://digikey.com/product-detail/en/kyocera-international-inc-electronic-components/CX2016DB20000D0FLJCC/1253-1349-1-ND/4896439; Frequency: 20MHz; Height - Seated (Max): 0.018" (0.45mm); LastUpdated: 9/2/2020 1:21:56 AM; Lifecycle Status: Active; Load Capacitance: 8pF; Minimum Order: 1; Mounting Type: Surface Mount; Operating Temperature: -30°C ~ 85°C; Package / Case: 4-SMD, No Lead; Packaging: TapeAndReel; PartId: 474; Part Status: Active; Price: 0.48; Series: CX2016DB, Kyocera; Size / Dimension: 0.079" L x 0.063" W (2.00mm x 1.60mm); Supplier 1: DigiKey; Supplier Part Number 1: 1253-1349-1-ND; Type: MHz Crystal; Value: 20MHz
footprint KYOCERA CX2016DB
pins: 1, 2 GND, 3, 4 GND

## CX2016DB20000H0FLJC1
designator Y?, comment 20MHz
CRYSTAL 20.0000MHZ 12PF SMD; Part Number: CX2016DB20000H0FLJC1; Manufacturer: Kyocera International Inc. Electronic Components; ESR (Equivalent Series Resistance): 150 Ohms; Frequency Stability: ±15ppm; Frequency Tolerance: ±10ppm; Operating Mode: Fundamental; ComponentLink1Description: Datasheet; ComponentLink1URL: //media.digikey.com/pdf/Data%20Sheets/AVX%20PDFs/CX2016DB_USY1M-H1-16426-00_Spec.pdf; ComponentLink2Description: DigiKey Link; ComponentLink2URL: http://digikey.com/product-detail/en/kyocera-international-inc-electronic-components/CX2016DB20000H0FLJC1/1253-1704-1-ND/6123331; Frequency: 20MHz; Height - Seated (Max): 0.018" (0.45mm); LastUpdated: 9/2/2020 1:21:56 AM; Lifecycle Status: Active; Load Capacitance: 12pF; Minimum Order: 1; Mounting Type: Surface Mount; Operating Temperature: -30°C ~ 85°C; Package / Case: 4-SMD, No Lead; Packaging: TapeAndReel; PartId: 468; Part Status: Active; Price: 0.36; Series: CX2016DB, Kyocera; Size / Dimension: 0.079" L x 0.063" W (2.00mm x 1.60mm); Supplier 1: DigiKey; Supplier Part Number 1: 1253-1704-1-ND; Type: MHz Crystal; Value: 20MHz
footprint KYOCERA CX2016DB
pins: 1, 2 GND, 3, 4 GND

## CX2016DB24000D0FLJC6
designator Y?, comment 24MHz
CRYSTAL 24.0000MHZ 8PF SMD; Part Number: CX2016DB24000D0FLJC6; Manufacturer: Kyocera International Inc. Electronic Components; ESR (Equivalent Series Resistance): 150 Ohms; Frequency Stability: ±15ppm; Frequency Tolerance: ±10ppm; Operating Mode: Fundamental; ComponentLink1Description: Datasheet; ComponentLink1URL: //media.digikey.com/pdf/Data%20Sheets/AVX%20PDFs/CX2016DB_USY1M-H1-16424-00_Spec.pdf; ComponentLink2Description: DigiKey Link; ComponentLink2URL: http://digikey.com/product-detail/en/kyocera-international-inc-electronic-components/CX2016DB24000D0FLJC6/1253-1705-1-ND/6123332; Frequency: 24MHz; Height - Seated (Max): 0.018" (0.45mm); LastUpdated: 9/2/2020 1:21:56 AM; Lifecycle Status: Active; Load Capacitance: 8pF; Minimum Order: 1; Mounting Type: Surface Mount; Operating Temperature: -30°C ~ 85°C; Package / Case: 4-SMD, No Lead; Packaging: TapeAndReel; PartId: 456; Part Status: Active; Price: 0.36; Series: CX2016DB, Kyocera; Size / Dimension: 0.079" L x 0.063" W (2.00mm x 1.60mm); Supplier 1: DigiKey; Supplier Part Number 1: 1253-1705-1-ND; Type: MHz Crystal; Value: 24MHz
footprint KYOCERA CX2016DB
pins: 1, 2 GND, 3, 4 GND

## CX2016DB24000D0GEJCC
designator Y?, comment 24MHz
CRYSTAL 24.0000MHZ 8PF SMD; Part Number: CX2016DB24000D0GEJCC; Manufacturer: Kyocera International Inc. Electronic Components; ESR (Equivalent Series Resistance): 150 Ohms; Frequency Stability: ±15ppm; Operating Mode: Fundamental; ComponentLink1Description: Datasheet; ComponentLink1URL: https://global.kyocera.com/prdct/electro/product/pdf/cx2016db_e.pdf; ComponentLink2Description: DigiKey Link; ComponentLink2URL: http://digikey.com/product-detail/en/kyocera-international-inc-electronic-components/CX2016DB24000D0GEJCC/1253-1114-1-ND/4453932; Frequency: 24MHz; Frequency Tolerance: ±15ppm; Height - Seated (Max): 0.018" (0.45mm); LastUpdated: 9/2/2020 1:21:56 AM; Lifecycle Status: Active; Load Capacitance: 8pF; Minimum Order: 1; Mounting Type: Surface Mount; Operating Temperature: -10°C ~ 70°C; Package / Case: 4-SMD, No Lead; Packaging: TapeAndReel; PartId: 469; Part Status: Active; Price: 0.45; Series: CX2016DB, Kyocera; Size / Dimension: 0.079" L x 0.063" W (2.00mm x 1.60mm); Supplier 1: DigiKey; Supplier Part Number 1: 1253-1114-1-ND; Type: MHz Crystal; Value: 24MHz
footprint KYOCERA CX2016DB
pins: 1, 2 GND, 3, 4 GND

## CX2016DB24000H0FLJC4
designator Y?, comment 24MHz
CRYSTAL 24.0000MHZ 12PF SMD; Part Number: CX2016DB24000H0FLJC4; Manufacturer: Kyocera International Inc. Electronic Components; ESR (Equivalent Series Resistance): 150 Ohms; Frequency Stability: ±15ppm; Frequency Tolerance: ±10ppm; Operating Mode: Fundamental; ComponentLink1Description: Datasheet; ComponentLink1URL: //media.digikey.com/pdf/Data%20Sheets/AVX%20PDFs/CX2016DB_USY1M-H1-16426-00_Spec.pdf; ComponentLink2Description: DigiKey Link; ComponentLink2URL: http://digikey.com/product-detail/en/kyocera-international-inc-electronic-components/CX2016DB24000H0FLJC4/1253-1706-1-ND/6123333; Frequency: 24MHz; Height - Seated (Max): 0.018" (0.45mm); LastUpdated: 9/2/2020 1:21:56 AM; Lifecycle Status: Active; Load Capacitance: 12pF; Minimum Order: 1; Mounting Type: Surface Mount; Operating Temperature: -30°C ~ 85°C; Package / Case: 4-SMD, No Lead; Packaging: TapeAndReel; PartId: 476; Part Status: Active; Price: 0.36; Series: CX2016DB, Kyocera; Size / Dimension: 0.079" L x 0.063" W (2.00mm x 1.60mm); Supplier 1: DigiKey; Supplier Part Number 1: 1253-1706-1-ND; Type: MHz Crystal; Value: 24MHz
footprint KYOCERA CX2016DB
pins: 1, 2 GND, 3, 4 GND

## CX2016DB24576H0FLJC1
designator Y?, comment 24.576MHz
CRYSTAL 24.5760MHZ 12PF SMD; Part Number: CX2016DB24576H0FLJC1; Manufacturer: Kyocera International Inc. Electronic Components; ESR (Equivalent Series Resistance): 150 Ohms; Frequency Stability: ±15ppm; Frequency Tolerance: ±10ppm; Operating Mode: Fundamental; ComponentLink1Description: Datasheet; ComponentLink1URL: //media.digikey.com/pdf/Data%20Sheets/AVX%20PDFs/CX2016DB_USY1M-H1-16426-00_Spec.pdf; ComponentLink2Description: DigiKey Link; ComponentLink2URL: http://digikey.com/product-detail/en/kyocera-international-inc-electronic-components/CX2016DB24576H0FLJC1/1253-1707-1-ND/6123334; Frequency: 24.576MHz; Height - Seated (Max): 0.018" (0.45mm); LastUpdated: 9/2/2020 1:21:56 AM; Lifecycle Status: Active; Load Capacitance: 12pF; Minimum Order: 1; Mounting Type: Surface Mount; Operating Temperature: -30°C ~ 85°C; Package / Case: 4-SMD, No Lead; Packaging: TapeAndReel; PartId: 457; Part Status: Active; Price: 0.36; Series: CX2016DB, Kyocera; Size / Dimension: 0.079" L x 0.063" W (2.00mm x 1.60mm); Supplier 1: DigiKey; Supplier Part Number 1: 1253-1707-1-ND; Type: MHz Crystal; Value: 24.576MHz
footprint KYOCERA CX2016DB
pins: 1, 2 GND, 3, 4 GND

## CX2016DB25000D0FLJC2
designator Y?, comment 25MHz
CRYSTAL 25.0000MHZ 8PF SMD; Part Number: CX2016DB25000D0FLJC2; Manufacturer: Kyocera International Inc. Electronic Components; ESR (Equivalent Series Resistance): 150 Ohms; Frequency Stability: ±15ppm; Frequency Tolerance: ±10ppm; Operating Mode: Fundamental; ComponentLink1Description: Datasheet; ComponentLink1URL: //media.digikey.com/pdf/Data%20Sheets/AVX%20PDFs/CX2016DB_USY1M-H1-16424-00_Spec.pdf; ComponentLink2Description: DigiKey Link; ComponentLink2URL: http://digikey.com/product-detail/en/kyocera-international-inc-electronic-components/CX2016DB25000D0FLJC2/1253-1708-1-ND/6123335; Frequency: 25MHz; Height - Seated (Max): 0.018" (0.45mm); LastUpdated: 9/2/2020 1:21:56 AM; Lifecycle Status: Active; Load Capacitance: 8pF; Minimum Order: 1; Mounting Type: Surface Mount; Operating Temperature: -30°C ~ 85°C; Package / Case: 4-SMD, No Lead; Packaging: TapeAndReel; PartId: 484; Part Status: Active; Price: 0.36; Series: CX2016DB, Kyocera; Size / Dimension: 0.079" L x 0.063" W (2.00mm x 1.60mm); Supplier 1: DigiKey; Supplier Part Number 1: 1253-1708-1-ND; Type: MHz Crystal; Value: 25MHz
footprint KYOCERA CX2016DB
pins: 1, 2 GND, 3, 4 GND

## CX2016DB25000H0FLJC1
designator Y?, comment 25MHz
CRYSTAL 25.0000MHZ 12PF SMD; Part Number: CX2016DB25000H0FLJC1; Manufacturer: Kyocera International Inc. Electronic Components; ESR (Equivalent Series Resistance): 150 Ohms; Frequency Stability: ±15ppm; Frequency Tolerance: ±10ppm; Operating Mode: Fundamental; ComponentLink1Description: Datasheet; ComponentLink1URL: //media.digikey.com/pdf/Data%20Sheets/AVX%20PDFs/CX2016DB_USY1M-H1-16426-00_Spec.pdf; ComponentLink2Description: DigiKey Link; ComponentLink2URL: http://digikey.com/product-detail/en/kyocera-international-inc-electronic-components/CX2016DB25000H0FLJC1/1253-1709-1-ND/6123336; Frequency: 25MHz; Height - Seated (Max): 0.018" (0.45mm); LastUpdated: 9/2/2020 1:21:56 AM; Lifecycle Status: Active; Load Capacitance: 12pF; Minimum Order: 1; Mounting Type: Surface Mount; Operating Temperature: -30°C ~ 85°C; Package / Case: 4-SMD, No Lead; Packaging: TapeAndReel; PartId: 458; Part Status: Active; Price: 0.36; Series: CX2016DB, Kyocera; Size / Dimension: 0.079" L x 0.063" W (2.00mm x 1.60mm); Supplier 1: DigiKey; Supplier Part Number 1: 1253-1709-1-ND; Type: MHz Crystal; Value: 25MHz
footprint KYOCERA CX2016DB
pins: 1, 2 GND, 3, 4 GND

## CX2016DB26000D0FLJCC
designator Y?, comment 26MHz
CRYSTAL 26.0000MHZ 8PF SMD; Part Number: CX2016DB26000D0FLJCC; Manufacturer: Kyocera International Inc. Electronic Components; ESR (Equivalent Series Resistance): 60 Ohms; Frequency Stability: ±15ppm; Frequency Tolerance: ±10ppm; Operating Mode: Fundamental; ComponentLink1Description: Datasheet; ComponentLink1URL: //media.digikey.com/pdf/Data%20Sheets/Optrex%20PDFs/CX2016DB_Series_Spec.pdf; ComponentLink2Description: DigiKey Link; ComponentLink2URL: http://digikey.com/product-detail/en/kyocera-international-inc-electronic-components/CX2016DB26000D0FLJCC/1253-1116-1-ND/4453935; Frequency: 26MHz; Height - Seated (Max): 0.018" (0.45mm); LastUpdated: 9/2/2020 1:21:56 AM; Lifecycle Status: Active; Load Capacitance: 8pF; Minimum Order: 1; Mounting Type: Surface Mount; Operating Temperature: -30°C ~ 85°C; Package / Case: 4-SMD, No Lead; Packaging: TapeAndReel; PartId: 473; Part Status: Active; Price: 0.48; Series: CX2016DB, Kyocera; Size / Dimension: 0.079" L x 0.063" W (2.00mm x 1.60mm); Supplier 1: DigiKey; Supplier Part Number 1: 1253-1116-1-ND; Type: MHz Crystal; Value: 26MHz
footprint KYOCERA CX2016DB
pins: 1, 2 GND, 3, 4 GND

## CX2016DB26000H0FLJC2
designator Y?, comment 26MHz
CRYSTAL 26.0000MHZ 12PF SMD; Part Number: CX2016DB26000H0FLJC2; Manufacturer: Kyocera International Inc. Electronic Components; ESR (Equivalent Series Resistance): 60 Ohms; Frequency Stability: ±15ppm; Frequency Tolerance: ±10ppm; Operating Mode: Fundamental; ComponentLink1Description: Datasheet; ComponentLink1URL: //media.digikey.com/pdf/Data%20Sheets/AVX%20PDFs/CX2016DB_USY1M-H1-16426-00_Spec.pdf; ComponentLink2Description: DigiKey Link; ComponentLink2URL: http://digikey.com/product-detail/en/kyocera-international-inc-electronic-components/CX2016DB26000H0FLJC2/1253-1710-1-ND/6123337; Frequency: 26MHz; Height - Seated (Max): 0.018" (0.45mm); LastUpdated: 9/2/2020 1:21:56 AM; Lifecycle Status: Active; Load Capacitance: 12pF; Minimum Order: 1; Mounting Type: Surface Mount; Operating Temperature: -30°C ~ 85°C; Package / Case: 4-SMD, No Lead; Packaging: TapeAndReel; PartId: 475; Part Status: Active; Price: 0.36; Series: CX2016DB, Kyocera; Size / Dimension: 0.079" L x 0.063" W (2.00mm x 1.60mm); Supplier 1: DigiKey; Supplier Part Number 1: 1253-1710-1-ND; Type: MHz Crystal; Value: 26MHz
footprint KYOCERA CX2016DB
pins: 1, 2 GND, 3, 4 GND

## CX2016DB27000H0FLFC1
designator Y?, comment 27MHz
CRYSTAL 27.0000MHZ 12PF SMD; Part Number: CX2016DB27000H0FLFC1; Manufacturer: Kyocera International Inc. Electronic Components; ESR (Equivalent Series Resistance): 60 Ohms; Frequency Stability: ±15ppm; Frequency Tolerance: ±10ppm; Operating Mode: Fundamental; ComponentLink1Description: Datasheet; ComponentLink1URL: https://global.kyocera.com/prdct/electro/product/pdf/cx2016db_e.pdf; ComponentLink2Description: DigiKey Link; ComponentLink2URL: http://digikey.com/product-detail/en/kyocera-international-inc-electronic-components/CX2016DB27000H0FLFC1/1253-1347-1-ND/4896437; Frequency: 27MHz; Height - Seated (Max): 0.018" (0.45mm); LastUpdated: 9/2/2020 1:21:56 AM; Lifecycle Status: Active; Load Capacitance: 12pF; Minimum Order: 1; Mounting Type: Surface Mount; Operating Temperature: -30°C ~ 85°C; Package / Case: 4-SMD, No Lead; Packaging: TapeAndReel; PartId: 482; Part Status: Active; Price: 0.33; Series: CX2016DB, Kyocera; Size / Dimension: 0.079" L x 0.063" W (2.00mm x 1.60mm); Supplier 1: DigiKey; Supplier Part Number 1: 1253-1347-1-ND; Type: MHz Crystal; Value: 27MHz
footprint KYOCERA CX2016DB
pins: 1, 2 GND, 3, 4 GND

## CX2016DB27120B0HLLC1
designator Y?, comment 27.12MHz
CRYSTAL 27.1200MHZ 6PF SMD; Part Number: CX2016DB27120B0HLLC1; Manufacturer: Kyocera International Inc. Electronic Components; ESR (Equivalent Series Resistance): 60 Ohms; Frequency Tolerance: ±20ppm; Operating Mode: Fundamental; ComponentLink2Description: DigiKey Link; ComponentLink2URL: http://digikey.com/product-detail/en/kyocera-international-inc-electronic-components/CX2016DB27120B0HLLC1/1253-1697-1-ND/5995244; Frequency: 27.12MHz; Height - Seated (Max): 0.018" (0.45mm); LastUpdated: 9/2/2020 1:21:56 AM; Lifecycle Status: Active; Load Capacitance: 6pF; Minimum Order: 1; Mounting Type: Surface Mount; Operating Temperature: -30°C ~ 85°C; Package / Case: 4-SMD, No Lead; Packaging: TapeAndReel; PartId: 463; Part Status: Active; Price: 0.30; Series: CX2016DB, Kyocera; Size / Dimension: 0.079" L x 0.063" W (2.00mm x 1.60mm); Supplier 1: DigiKey; Supplier Part Number 1: 1253-1697-1-ND; Type: MHz Crystal; Value: 27.12MHz
footprint KYOCERA CX2016DB
pins: 1, 2 GND, 3, 4 GND

## CX2016DB32000D0FLJCC
designator Y?, comment 32MHz
CRYSTAL 32.0000MHZ 8PF SMD; Part Number: CX2016DB32000D0FLJCC; Manufacturer: Kyocera International Inc. Electronic Components; ESR (Equivalent Series Resistance): 60 Ohms; Frequency Stability: ±15ppm; Frequency Tolerance: ±10ppm; Operating Mode: Fundamental; ComponentLink1Description: Datasheet; ComponentLink1URL: //media.digikey.com/pdf/Data%20Sheets/Optrex%20PDFs/CX2016DB_Series_Spec.pdf; ComponentLink2Description: DigiKey Link; ComponentLink2URL: http://digikey.com/product-detail/en/kyocera-international-inc-electronic-components/CX2016DB32000D0FLJCC/1253-1118-1-ND/4453936; Frequency: 32MHz; Height - Seated (Max): 0.018" (0.45mm); LastUpdated: 9/2/2020 1:21:56 AM; Lifecycle Status: Active; Load Capacitance: 8pF; Minimum Order: 1; Mounting Type: Surface Mount; Operating Temperature: -30°C ~ 85°C; Package / Case: 4-SMD, No Lead; Packaging: TapeAndReel; PartId: 470; Part Status: Active; Price: 0.48; Series: CX2016DB, Kyocera; Size / Dimension: 0.079" L x 0.063" W (2.00mm x 1.60mm); Supplier 1: DigiKey; Supplier Part Number 1: 1253-1118-1-ND; Type: MHz Crystal; Value: 32MHz
footprint KYOCERA CX2016DB
pins: 1, 2 GND, 3, 4 GND

## CX2016DB32000D0WZRC1
designator Y?, comment 32MHz
CRYSTAL 32.0000MHZ 8PF SMD; Part Number: CX2016DB32000D0WZRC1; Manufacturer: Kyocera International Inc. Electronic Components; ESR (Equivalent Series Resistance): 60 Ohms; Frequency Stability: ±40ppm; Frequency Tolerance: ±25ppm; Operating Mode: Fundamental; ComponentLink1Description: Datasheet; ComponentLink1URL: https://global.kyocera.com/prdct/electro/product/pdf/cx2016db_e.pdf; ComponentLink2Description: DigiKey Link; ComponentLink2URL: http://digikey.com/product-detail/en/kyocera-international-inc-electronic-components/CX2016DB32000D0WZRC1/1253-1586-1-ND/5436848; Frequency: 32MHz; Height - Seated (Max): 0.018" (0.45mm); LastUpdated: 9/2/2020 1:21:56 AM; Lifecycle Status: Active; Load Capacitance: 8pF; Minimum Order: 1; Mounting Type: Surface Mount; Operating Temperature: -25°C ~ 75°C; Package / Case: 4-SMD, No Lead; Packaging: TapeAndReel; PartId: 466; Part Status: Active; Price: 0.36; Series: CX2016DB, Kyocera; Size / Dimension: 0.079" L x 0.063" W (2.00mm x 1.60mm); Supplier 1: DigiKey; Supplier Part Number 1: 1253-1586-1-ND; Type: MHz Crystal; Value: 32MHz
footprint KYOCERA CX2016DB
pins: 1, 2 GND, 3, 4 GND